# EAGLE library part SIGFOX_TD1202 (library hidnSeek)
Telecom Design SIGFOX TD1202 - 868MHz
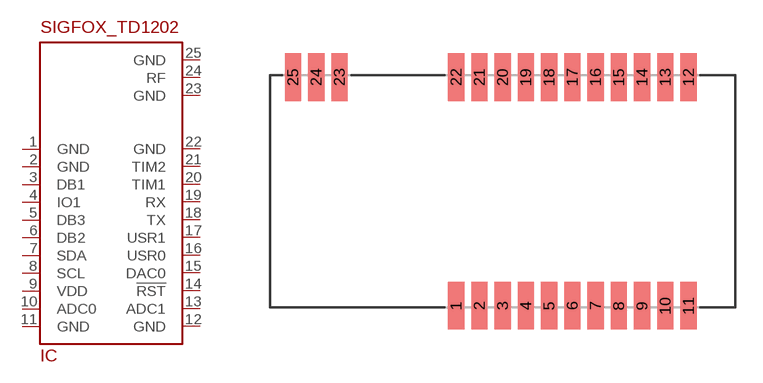
[diagram p3: symbol with the pads of TD1202; footprint TD1202]

Designator prefix IC

## SIGFOX_TD1202  [TD1202]
1  GND  pwr
2  GND  pwr
3  DB1
4  IO1
5  DB3
6  DB2
7  SDA
8  SCL
9  VDD  pwr
10  ADC0
11  GND  pwr
12  GND
13  ADC1
14  !RST  in
15  DAC0
16  USR0
17  USR1
18  TX  out
19  RX  in
20  TIM1
21  TIM2
22  GND
23  GND
24  RF  out
25  GND

## Footprint TD1202 (pad centres in mm)
Telecom Design - SIGFOX Gateway TD1202
smd 0.89 x 2.6: 1 -2.54,-6.25; 2 -1.27,-6.25; 3 0,-6.25; 4 1.27,-6.25; 5 2.54,-6.25; 6 3.81,-6.25; 7 5.08,-6.25; 8 6.35,-6.25; 9 7.62,-6.25; 10 8.89,-6.25; 11 10.16,-6.25; 12 10.16,6.25; 13 8.89,6.25; 14 7.62,6.25; 15 6.35,6.25; 16 5.08,6.25; 17 3.81,6.25; 18 2.54,6.25; 19 1.27,6.25; 20 0,6.25; 21 -1.27,6.25; 22 -2.54,6.25; 23 -8.92,6.25; 24 -10.19,6.25; 25 -11.46,6.25